# Altium integrated library Microchip PIC24F.IntLib: 529 symbols (part 16 of 32)
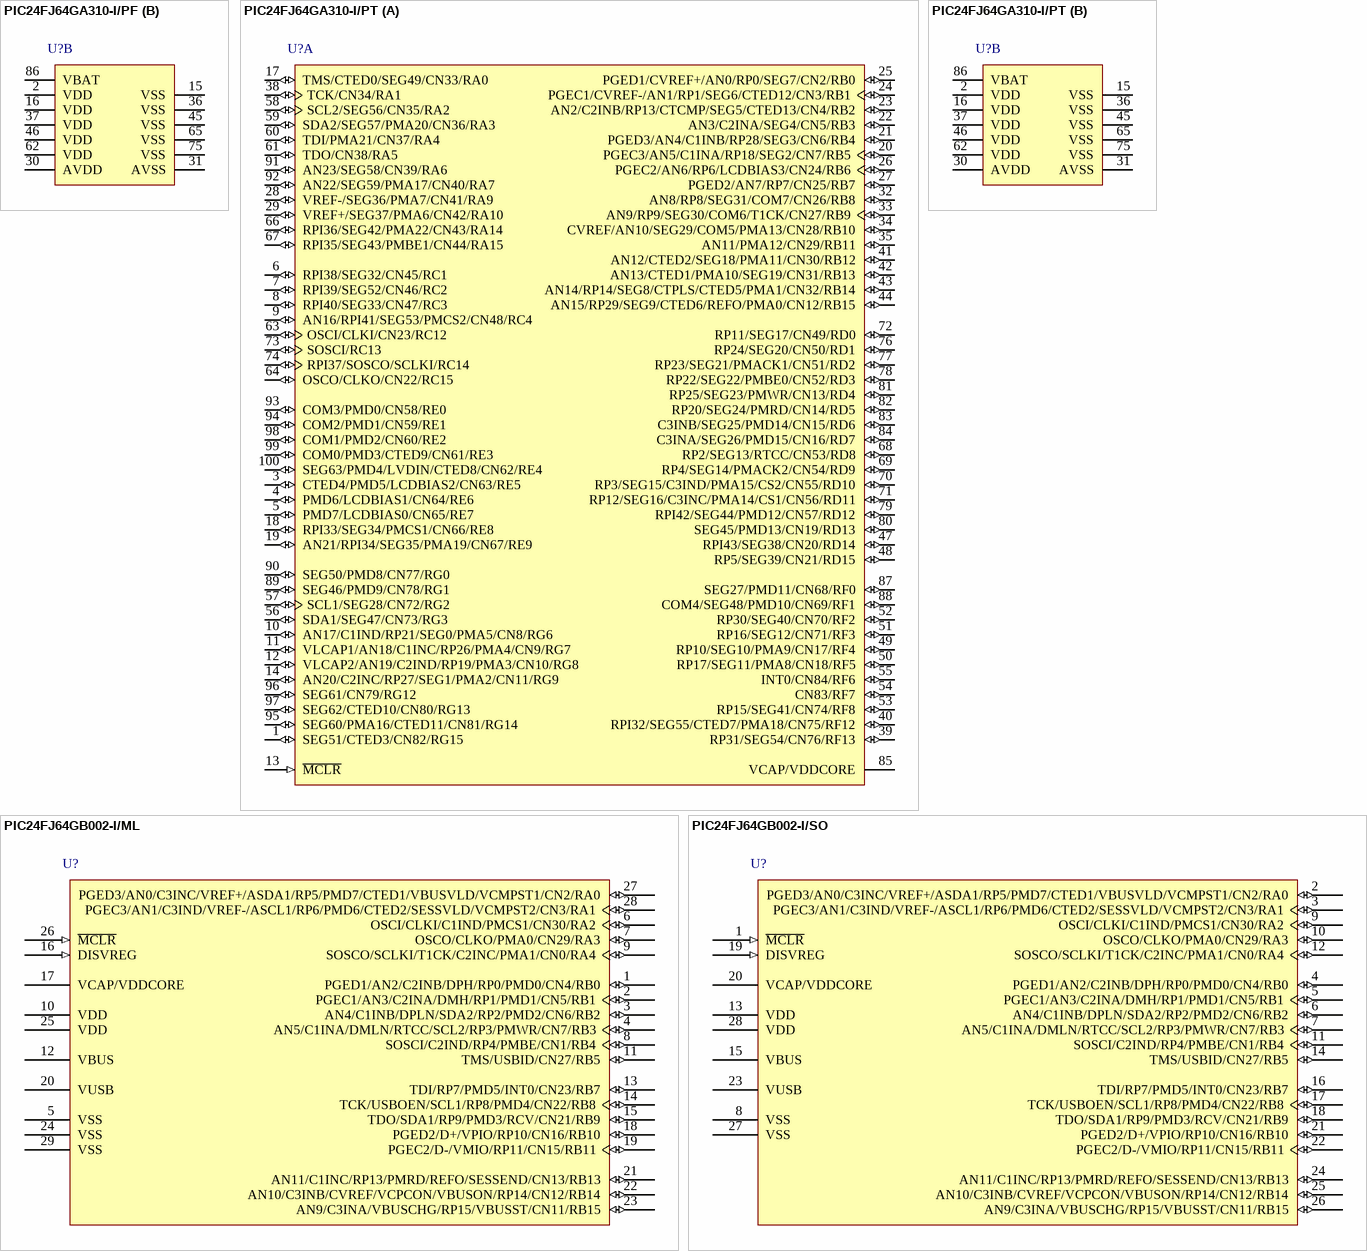
[diagram p137: symbols PIC24FJ64GA310-I/PF to PIC24FJ64GB002-I/SO]

## PIC24FJ64GA310-I/PF
designator U?
General Purpose, 16-Bit Flash Microcontroller with LCD Controller and nanoWatt XLP Technology, 16 MIPS, 85 I/O, EPMP, -40 to 85 degC, 100-pin TQFP (PF100), Tray; Manufacturer: Microchip; PartNumber: PIC24FJ64GA310-I/PF; DatasheetVersion: Rev. F; PackageVersion: C04-110B; PackageReference: TQFP-PF100; PackageDescription: 100-Lead Thin Plastic Quad Flat Pack, 14 x 14 mm Body, 0.5 mm Pitch; Supplier 1: Digi-Key; Supplier Part Number 1: PIC24FJ64GA310-I/PF-ND; Supplier 2: Mouser; Supplier Part Number 2: 579-24FJ64GA310-I/PF; Mounting Technology: Surface Mount; ComponentLink1Description: Manufacturer URL; ComponentLink1URL: http://www.microchip.com; ComponentLink2Description: Datasheet; ComponentLink2URL: http://ww1.microchip.com/downloads/en/DeviceDoc/39996f.pdf; ComponentLink3Description: Package Specification; ComponentLink3URL: http://www.microchip.com/stellent/groups/techpub_sg/documents/packagingspec/en012702.pdf; ComponentLink4Description: Product URL; ComponentLink4URL: http://www.microchip.com/PIC24FJ64GA310
footprint MCHP-TQFP-PF100_N (QFP, 100-Leads, Body 14x14mm, Pitch 0.5mm, IPC Medium Density)
footprint MCHP-TQFP-PF100_L (QFP, 100-Leads, Body 14x14mm, Pitch 0.5mm, IPC High Density)
footprint MCHP-TQFP-PF100_M (QFP, 100-Leads, Body 14x14mm, Pitch 0.5mm, IPC Low Density)
part A pins: 1 SEG51/CTED3/CN82/RG15 (io), 3 CTED4/PMD5/LCDBIAS2/CN63/RE5 (io), 4 PMD6/LCDBIAS1/CN64/RE6 (io), 5 PMD7/LCDBIAS0/CN65/RE7 (io), 6 RPI38/SEG32/CN45/RC1 (io), 7 RPI39/SEG52/CN46/RC2 (io), 8 RPI40/SEG33/CN47/RC3 (io), 9 AN16/RPI41/SEG53/PMCS2/CN48/RC4 (io), 10 AN17/C1IND/RP21/SEG0/PMA5/CN8/RG6 (io), 11 VLCAP1/AN18/C1INC/RP26/PMA4/CN9/RG7 (io), 12 VLCAP2/AN19/C2IND/RP19/PMA3/CN10/RG8 (io), 13 ~{MCLR} (in) "Master Clear (device Reset) Input. This line is brought low to cause a Reset.", 14 AN20/C2INC/RP27/SEG1/PMA2/CN11/RG9 (io), 17 TMS/CTED0/SEG49/CN33/RA0 (io), 18 RPI33/SEG34/PMCS1/CN66/RE8 (io), 19 AN21/RPI34/SEG35/PMA19/CN67/RE9 (io), 20 PGEC3/AN5/C1INA/RP18/SEG2/CN7/RB5 (io), 21 PGED3/AN4/C1INB/RP28/SEG3/CN6/RB4 (io), 22 AN3/C2INA/SEG4/CN5/RB3 (io), 23 AN2/C2INB/RP13/CTCMP/SEG5/CTED13/CN4/RB2 (io), 24 PGEC1/CVREF-/AN1/RP1/SEG6/CTED12/CN3/RB1 (io), 25 PGED1/CVREF+/AN0/RP0/SEG7/CN2/RB0 (io), 26 PGEC2/AN6/RP6/LCDBIAS3/CN24/RB6 (io), 27 PGED2/AN7/RP7/CN25/RB7 (io), 28 VREF-/SEG36/PMA7/CN41/RA9 (io), 29 VREF+/SEG37/PMA6/CN42/RA10 (io), 32 AN8/RP8/SEG31/COM7/CN26/RB8 (io), 33 AN9/RP9/SEG30/COM6/T1CK/CN27/RB9 (io), 34 CVREF/AN10/SEG29/COM5/PMA13/CN28/RB10 (io), 35 AN11/PMA12/CN29/RB11 (io), 38 TCK/CN34/RA1 (io), 39 RP31/SEG54/CN76/RF13 (io), 40 RPI32/SEG55/CTED7/PMA18/CN75/RF12 (io), 41 AN12/CTED2/SEG18/PMA11/CN30/RB12 (io), 42 AN13/CTED1/PMA10/SEG19/CN31/RB13 (io), 43 AN14/RP14/SEG8/CTPLS/CTED5/PMA1/CN32/RB14 (io), 44 AN15/RP29/SEG9/CTED6/REFO/PMA0/CN12/RB15 (io), 47 RPI43/SEG38/CN20/RD14 (io), 48 RP5/SEG39/CN21/RD15 (io), 49 RP10/SEG10/PMA9/CN17/RF4 (io), 50 RP17/SEG11/PMA8/CN18/RF5 (io), 51 RP16/SEG12/CN71/RF3 (io), 52 RP30/SEG40/CN70/RF2 (io), 53 RP15/SEG41/CN74/RF8 (io), 54 CN83/RF7 (io), 55 INT0/CN84/RF6 (io), 56 SDA1/SEG47/CN73/RG3 (io), 57 SCL1/SEG28/CN72/RG2 (io), 58 SCL2/SEG56/CN35/RA2 (io), 59 SDA2/SEG57/PMA20/CN36/RA3 (io), 60 TDI/PMA21/CN37/RA4 (io), 61 TDO/CN38/RA5 (io), 63 OSCI/CLKI/CN23/RC12 (io), 64 OSCO/CLKO/CN22/RC15 (io), 66 RPI36/SEG42/PMA22/CN43/RA14 (io), 67 RPI35/SEG43/PMBE1/CN44/RA15 (io), 68 RP2/SEG13/RTCC/CN53/RD8 (io), 69 RP4/SEG14/PMACK2/CN54/RD9 (io), 70 RP3/SEG15/C3IND/PMA15/CS2/CN55/RD10 (io), 71 RP12/SEG16/C3INC/PMA14/CS1/CN56/RD11 (io), 72 RP11/SEG17/CN49/RD0 (io), 73 SOSCI/RC13 (io), 74 RPI37/SOSCO/SCLKI/RC14 (io), 76 RP24/SEG20/CN50/RD1 (io), 77 RP23/SEG21/PMACK1/CN51/RD2 (io), 78 RP22/SEG22/PMBE0/CN52/RD3 (io), 79 RPI42/SEG44/PMD12/CN57/RD12 (io), 80 SEG45/PMD13/CN19/RD13 (io), 81 RP25/SEG23/PMWR/CN13/RD4 (io), 82 RP20/SEG24/PMRD/CN14/RD5 (io), 83 C3INB/SEG25/PMD14/CN15/RD6 (io), 84 C3INA/SEG26/PMD15/CN16/RD7 (io), 85 VCAP/VDDCORE, 87 SEG27/PMD11/CN68/RF0 (io), 88 COM4/SEG48/PMD10/CN69/RF1 (io), 89 SEG46/PMD9/CN78/RG1 (io), 90 SEG50/PMD8/CN77/RG0 (io), 91 AN23/SEG58/CN39/RA6 (io), 92 AN22/SEG59/PMA17/CN40/RA7 (io), 93 COM3/PMD0/CN58/RE0 (io), 94 COM2/PMD1/CN59/RE1 (io), 95 SEG60/PMA16/CTED11/CN81/RG14 (io), 96 SEG61/CN79/RG12 (io), 97 SEG62/CTED10/CN80/RG13 (io), 98 COM1/PMD2/CN60/RE2 (io), 99 COM0/PMD3/CTED9/CN61/RE3 (io), 100 SEG63/PMD4/LVDIN/CTED8/CN62/RE4 (io)
part B pins: 2 VDD (power) "Positive Supply for Peripheral Digital Logic and I/O Pins.", 15 VSS (power) "Ground Reference for Logic and I/O Pins.", 16 VDD (power) "Positive Supply for Peripheral Digital Logic and I/O Pins.", 30 AVDD (power) "Positive Supply for Analog modules.", 31 AVSS (power) "Ground Reference for Analog modules.", 36 VSS (power) "Ground Reference for Logic and I/O Pins.", 37 VDD (power) "Positive Supply for Peripheral Digital Logic and I/O Pins.", 45 VSS (power) "Ground Reference for Logic and I/O Pins.", 46 VDD (power) "Positive Supply for Peripheral Digital Logic and I/O Pins.", 62 VDD (power) "Positive Supply for Peripheral Digital Logic and I/O Pins.", 65 VSS (power) "Ground Reference for Logic and I/O Pins.", 75 VSS (power) "Ground Reference for Logic and I/O Pins.", 86 VBAT (power) "Back-up Battery."

## PIC24FJ64GA310-I/PT
designator U?
General Purpose, 16-Bit Flash Microcontroller with LCD Controller and nanoWatt XLP Technology, 16 MIPS, 85 I/O, EPMP, -40 to 85 degC, 100-pin TQFP (PT100), Tray; Manufacturer: Microchip; PartNumber: PIC24FJ64GA310-I/PT; DatasheetVersion: Rev. F; PackageVersion: C04-100B; PackageReference: TQFP-PT100; PackageDescription: 100-Lead Plastic Thin Quad Flatpack, 12 x 12 mm Body, 0.4 mm Pitch; Supplier 1: Digi-Key; Supplier Part Number 1: PIC24FJ64GA310-I/PT-ND; Supplier 2: Farnell; Supplier Part Number 2: 2076551; Supplier 3: Newark; Supplier Part Number 3: 39T6771; Supplier 4: Mouser; Supplier Part Number 4: 579-24FJ64GA310-I/PT; Mounting Technology: Surface Mount; ComponentLink1Description: Manufacturer URL; ComponentLink1URL: http://www.microchip.com; ComponentLink2Description: Datasheet; ComponentLink2URL: http://ww1.microchip.com/downloads/en/DeviceDoc/39996f.pdf; ComponentLink3Description: Package Specification; ComponentLink3URL: http://www.microchip.com/stellent/groups/techpub_sg/documents/packagingspec/en012702.pdf; ComponentLink4Description: Product URL; ComponentLink4URL: http://www.microchip.com/PIC24FJ64GA310
footprint MCHP-TQFP-PT100_N (QFP, 100-Leads, Body 12x12mm, Pitch 0.4mm, IPC Medium Density)
footprint MCHP-TQFP-PT100_L (QFP, 100-Leads, Body 12x12mm, Pitch 0.4mm, IPC High Density)
footprint MCHP-TQFP-PT100_M (TQFP, 100-Leads, Body 12x12mm, Pitch 0.4mm, IPC Low Density)
part A pins: 1 SEG51/CTED3/CN82/RG15 (io), 3 CTED4/PMD5/LCDBIAS2/CN63/RE5 (io), 4 PMD6/LCDBIAS1/CN64/RE6 (io), 5 PMD7/LCDBIAS0/CN65/RE7 (io), 6 RPI38/SEG32/CN45/RC1 (io), 7 RPI39/SEG52/CN46/RC2 (io), 8 RPI40/SEG33/CN47/RC3 (io), 9 AN16/RPI41/SEG53/PMCS2/CN48/RC4 (io), 10 AN17/C1IND/RP21/SEG0/PMA5/CN8/RG6 (io), 11 VLCAP1/AN18/C1INC/RP26/PMA4/CN9/RG7 (io), 12 VLCAP2/AN19/C2IND/RP19/PMA3/CN10/RG8 (io), 13 ~{MCLR} (in) "Master Clear (device Reset) Input. This line is brought low to cause a Reset.", 14 AN20/C2INC/RP27/SEG1/PMA2/CN11/RG9 (io), 17 TMS/CTED0/SEG49/CN33/RA0 (io), 18 RPI33/SEG34/PMCS1/CN66/RE8 (io), 19 AN21/RPI34/SEG35/PMA19/CN67/RE9 (io), 20 PGEC3/AN5/C1INA/RP18/SEG2/CN7/RB5 (io), 21 PGED3/AN4/C1INB/RP28/SEG3/CN6/RB4 (io), 22 AN3/C2INA/SEG4/CN5/RB3 (io), 23 AN2/C2INB/RP13/CTCMP/SEG5/CTED13/CN4/RB2 (io), 24 PGEC1/CVREF-/AN1/RP1/SEG6/CTED12/CN3/RB1 (io), 25 PGED1/CVREF+/AN0/RP0/SEG7/CN2/RB0 (io), 26 PGEC2/AN6/RP6/LCDBIAS3/CN24/RB6 (io), 27 PGED2/AN7/RP7/CN25/RB7 (io), 28 VREF-/SEG36/PMA7/CN41/RA9 (io), 29 VREF+/SEG37/PMA6/CN42/RA10 (io), 32 AN8/RP8/SEG31/COM7/CN26/RB8 (io), 33 AN9/RP9/SEG30/COM6/T1CK/CN27/RB9 (io), 34 CVREF/AN10/SEG29/COM5/PMA13/CN28/RB10 (io), 35 AN11/PMA12/CN29/RB11 (io), 38 TCK/CN34/RA1 (io), 39 RP31/SEG54/CN76/RF13 (io), 40 RPI32/SEG55/CTED7/PMA18/CN75/RF12 (io), 41 AN12/CTED2/SEG18/PMA11/CN30/RB12 (io), 42 AN13/CTED1/PMA10/SEG19/CN31/RB13 (io), 43 AN14/RP14/SEG8/CTPLS/CTED5/PMA1/CN32/RB14 (io), 44 AN15/RP29/SEG9/CTED6/REFO/PMA0/CN12/RB15 (io), 47 RPI43/SEG38/CN20/RD14 (io), 48 RP5/SEG39/CN21/RD15 (io), 49 RP10/SEG10/PMA9/CN17/RF4 (io), 50 RP17/SEG11/PMA8/CN18/RF5 (io), 51 RP16/SEG12/CN71/RF3 (io), 52 RP30/SEG40/CN70/RF2 (io), 53 RP15/SEG41/CN74/RF8 (io), 54 CN83/RF7 (io), 55 INT0/CN84/RF6 (io), 56 SDA1/SEG47/CN73/RG3 (io), 57 SCL1/SEG28/CN72/RG2 (io), 58 SCL2/SEG56/CN35/RA2 (io), 59 SDA2/SEG57/PMA20/CN36/RA3 (io), 60 TDI/PMA21/CN37/RA4 (io), 61 TDO/CN38/RA5 (io), 63 OSCI/CLKI/CN23/RC12 (io), 64 OSCO/CLKO/CN22/RC15 (io), 66 RPI36/SEG42/PMA22/CN43/RA14 (io), 67 RPI35/SEG43/PMBE1/CN44/RA15 (io), 68 RP2/SEG13/RTCC/CN53/RD8 (io), 69 RP4/SEG14/PMACK2/CN54/RD9 (io), 70 RP3/SEG15/C3IND/PMA15/CS2/CN55/RD10 (io), 71 RP12/SEG16/C3INC/PMA14/CS1/CN56/RD11 (io), 72 RP11/SEG17/CN49/RD0 (io), 73 SOSCI/RC13 (io), 74 RPI37/SOSCO/SCLKI/RC14 (io), 76 RP24/SEG20/CN50/RD1 (io), 77 RP23/SEG21/PMACK1/CN51/RD2 (io), 78 RP22/SEG22/PMBE0/CN52/RD3 (io), 79 RPI42/SEG44/PMD12/CN57/RD12 (io), 80 SEG45/PMD13/CN19/RD13 (io), 81 RP25/SEG23/PMWR/CN13/RD4 (io), 82 RP20/SEG24/PMRD/CN14/RD5 (io), 83 C3INB/SEG25/PMD14/CN15/RD6 (io), 84 C3INA/SEG26/PMD15/CN16/RD7 (io), 85 VCAP/VDDCORE, 87 SEG27/PMD11/CN68/RF0 (io), 88 COM4/SEG48/PMD10/CN69/RF1 (io), 89 SEG46/PMD9/CN78/RG1 (io), 90 SEG50/PMD8/CN77/RG0 (io), 91 AN23/SEG58/CN39/RA6 (io), 92 AN22/SEG59/PMA17/CN40/RA7 (io), 93 COM3/PMD0/CN58/RE0 (io), 94 COM2/PMD1/CN59/RE1 (io), 95 SEG60/PMA16/CTED11/CN81/RG14 (io), 96 SEG61/CN79/RG12 (io), 97 SEG62/CTED10/CN80/RG13 (io), 98 COM1/PMD2/CN60/RE2 (io), 99 COM0/PMD3/CTED9/CN61/RE3 (io), 100 SEG63/PMD4/LVDIN/CTED8/CN62/RE4 (io)
part B pins: 2 VDD (power) "Positive Supply for Peripheral Digital Logic and I/O Pins.", 15 VSS (power) "Ground Reference for Logic and I/O Pins.", 16 VDD (power) "Positive Supply for Peripheral Digital Logic and I/O Pins.", 30 AVDD (power) "Positive Supply for Analog modules.", 31 AVSS (power) "Ground Reference for Analog modules.", 36 VSS (power) "Ground Reference for Logic and I/O Pins.", 37 VDD (power) "Positive Supply for Peripheral Digital Logic and I/O Pins.", 45 VSS (power) "Ground Reference for Logic and I/O Pins.", 46 VDD (power) "Positive Supply for Peripheral Digital Logic and I/O Pins.", 62 VDD (power) "Positive Supply for Peripheral Digital Logic and I/O Pins.", 65 VSS (power) "Ground Reference for Logic and I/O Pins.", 75 VSS (power) "Ground Reference for Logic and I/O Pins.", 86 VBAT (power) "Back-up Battery."

## PIC24FJ64GB002-I/ML
designator U?
16-Bit Flash Microcontroller with USB On-The-Go and nanoWatt XLP, 64KB Flash, 8KB SRAM, 28-Pin QFN, Industrial Temperature; Manufacturer: Microchip; PartNumber: PIC24FJ64GB002-I/ML; DatasheetVersion: revD, Aug-2010; PackageVersion: revBB, Aug-2009; PackageReference: QFN-ML28; PackageDescription: 28-Lead Plastic Quad Flat, No Lead Package (ML) - 6x6 mm Body [QFN] with 0.55 mm Contact Length; Supplier 1: Digi-Key; Supplier Part Number 1: PIC24FJ64GB002-I/ML-ND; Supplier 2: Farnell; Supplier Part Number 2: 1778483; Supplier 3: Newark; Supplier Part Number 3: 07P9737; Supplier 4: Mouser; Supplier Part Number 4: 579-P24FJ64GB002IML; Mounting Technology: Surface Mount; Code_JEDEC: MO-220; ComponentLink1Description: Manufacturer URL; ComponentLink1URL: http://www.microchip.com/; ComponentLink2Description: Datasheet; ComponentLink2URL: http://ww1.microchip.com/downloads/en/DeviceDoc/39940d.pdf; ComponentLink3Description: Package Specification; ComponentLink3URL: http://www.microchip.com/stellent/groups/techpub_sg/documents/packagingspec/en012702.pdf
footprint QFN-ML28_N (QFN, 28-Leads, Body 6x6mm, Pitch 0.65mm, Thermal Pad 4.2x4.2mm, IPC Medium Density)
footprint QFN-ML28_L (QFN, 28-Leads, Body 6x6mm, Pitch 0.65mm, Thermal Pad 4.2x4.2mm, IPC High Density)
footprint QFN-ML28_M (QFN, 28-Leads, Body 6x6mm, Pitch 0.65mm, Thermal Pad 4.2x4.2mm, IPC Low Density)
pins: 1 PGED1/AN2/C2INB/DPH/RP0/PMD0/CN4/RB0 (io), 2 PGEC1/AN3/C2INA/DMH/RP1/PMD1/CN5/RB1 (io), 3 AN4/C1INB/DPLN/SDA2/RP2/PMD2/CN6/RB2 (io), 4 AN5/C1INA/DMLN/RTCC/SCL2/RP3/PMWR/CN7/RB3 (io), 5 VSS (power), 6 OSCI/CLKI/C1IND/PMCS1/CN30/RA2 (io), 7 OSCO/CLKO/PMA0/CN29/RA3 (io), 8 SOSCI/C2IND/RP4/PMBE/CN1/RB4 (io), 9 SOSCO/SCLKI/T1CK/C2INC/PMA1/CN0/RA4 (io), 10 VDD (power), 11 TMS/USBID/CN27/RB5 (io), 12 VBUS (power), 13 TDI/RP7/PMD5/INT0/CN23/RB7 (io), 14 TCK/USBOEN/SCL1/RP8/PMD4/CN22/RB8 (io), 15 TDO/SDA1/RP9/PMD3/RCV/CN21/RB9 (io), 16 DISVREG (in), 17 VCAP/VDDCORE (power), 18 PGED2/D+/VPIO/RP10/CN16/RB10 (io), 19 PGEC2/D-/VMIO/RP11/CN15/RB11 (io), 20 VUSB (power), 21 AN11/C1INC/RP13/PMRD/REFO/SESSEND/CN13/RB13 (io), 22 AN10/C3INB/CVREF/VCPCON/VBUSON/RP14/CN12/RB14 (io), 23 AN9/C3INA/VBUSCHG/RP15/VBUSST/CN11/RB15 (io), 24 VSS (power), 25 VDD (power), 26 ~{MCLR} (in), 27 PGED3/AN0/C3INC/VREF+/ASDA1/RP5/PMD7/CTED1/VBUSVLD/VCMPST1/CN2/RA0 (io), 28 PGEC3/AN1/C3IND/VREF-/ASCL1/RP6/PMD6/CTED2/SESSVLD/VCMPST2/CN3/RA1 (io), 29 VSS (power)

## PIC24FJ64GB002-I/SO
designator U?
16-Bit Flash Microcontroller with USB On-The-Go and nanoWatt XLP, 64KB Flash, 8KB SRAM, 28-Pin SOIC, Industrial Temperature; Manufacturer: Microchip; PartNumber: PIC24FJ64GB002-I/SO; DatasheetVersion: revD, Aug-2010; PackageVersion: revBB, Aug-2009; PackageReference: SOIC-SO28; PackageDescription: 28-Lead Plastic Small Outline (SO) - Wide 7.50mm Body [SOIC]; Supplier 1: Digi-Key; Supplier Part Number 1: PIC24FJ64GB002-I/SO-ND; Supplier 2: Farnell; Supplier Part Number 2: 1778484; Supplier 3: Newark; Supplier Part Number 3: 07P9738; Supplier 4: Mouser; Supplier Part Number 4: 579-P24FJ64GB002ISO; Mounting Technology: Surface Mount; Code_JEDEC: MS-013; ComponentLink1Description: Manufacturer URL; ComponentLink1URL: http://www.microchip.com/; ComponentLink2Description: Datasheet; ComponentLink2URL: http://ww1.microchip.com/downloads/en/DeviceDoc/39940d.pdf; ComponentLink3Description: Package Specification; ComponentLink3URL: http://www.microchip.com/stellent/groups/techpub_sg/documents/packagingspec/en012702.pdf
footprint SOIC-SO28_N (SOIC, 28-Leads, Body 17.9x7.5mm, Pitch 1.27mm, IPC Medium Density)
footprint SOIC-SO28_L (SOIC, 28-Leads, Body 17.9x7.5mm, Pitch 1.27mm, IPC High Density)
footprint SOIC-SO28_M (SOIC, 28-Leads, Body 17.9x7.5mm, Pitch 1.27mm, IPC Low Density)
pins: 1 ~{MCLR} (in), 2 PGED3/AN0/C3INC/VREF+/ASDA1/RP5/PMD7/CTED1/VBUSVLD/VCMPST1/CN2/RA0 (io), 3 PGEC3/AN1/C3IND/VREF-/ASCL1/RP6/PMD6/CTED2/SESSVLD/VCMPST2/CN3/RA1 (io), 4 PGED1/AN2/C2INB/DPH/RP0/PMD0/CN4/RB0 (io), 5 PGEC1/AN3/C2INA/DMH/RP1/PMD1/CN5/RB1 (io), 6 AN4/C1INB/DPLN/SDA2/RP2/PMD2/CN6/RB2 (io), 7 AN5/C1INA/DMLN/RTCC/SCL2/RP3/PMWR/CN7/RB3 (io), 8 VSS (power), 9 OSCI/CLKI/C1IND/PMCS1/CN30/RA2 (io), 10 OSCO/CLKO/PMA0/CN29/RA3 (io), 11 SOSCI/C2IND/RP4/PMBE/CN1/RB4 (io), 12 SOSCO/SCLKI/T1CK/C2INC/PMA1/CN0/RA4 (io), 13 VDD (power), 14 TMS/USBID/CN27/RB5 (io), 15 VBUS (power), 16 TDI/RP7/PMD5/INT0/CN23/RB7 (io), 17 TCK/USBOEN/SCL1/RP8/PMD4/CN22/RB8 (io), 18 TDO/SDA1/RP9/PMD3/RCV/CN21/RB9 (io), 19 DISVREG (in), 20 VCAP/VDDCORE (power), 21 PGED2/D+/VPIO/RP10/CN16/RB10 (io), 22 PGEC2/D-/VMIO/RP11/CN15/RB11 (io), 23 VUSB (power), 24 AN11/C1INC/RP13/PMRD/REFO/SESSEND/CN13/RB13 (io), 25 AN10/C3INB/CVREF/VCPCON/VBUSON/RP14/CN12/RB14 (io), 26 AN9/C3INA/VBUSCHG/RP15/VBUSST/CN11/RB15 (io), 27 VSS (power), 28 VDD (power)

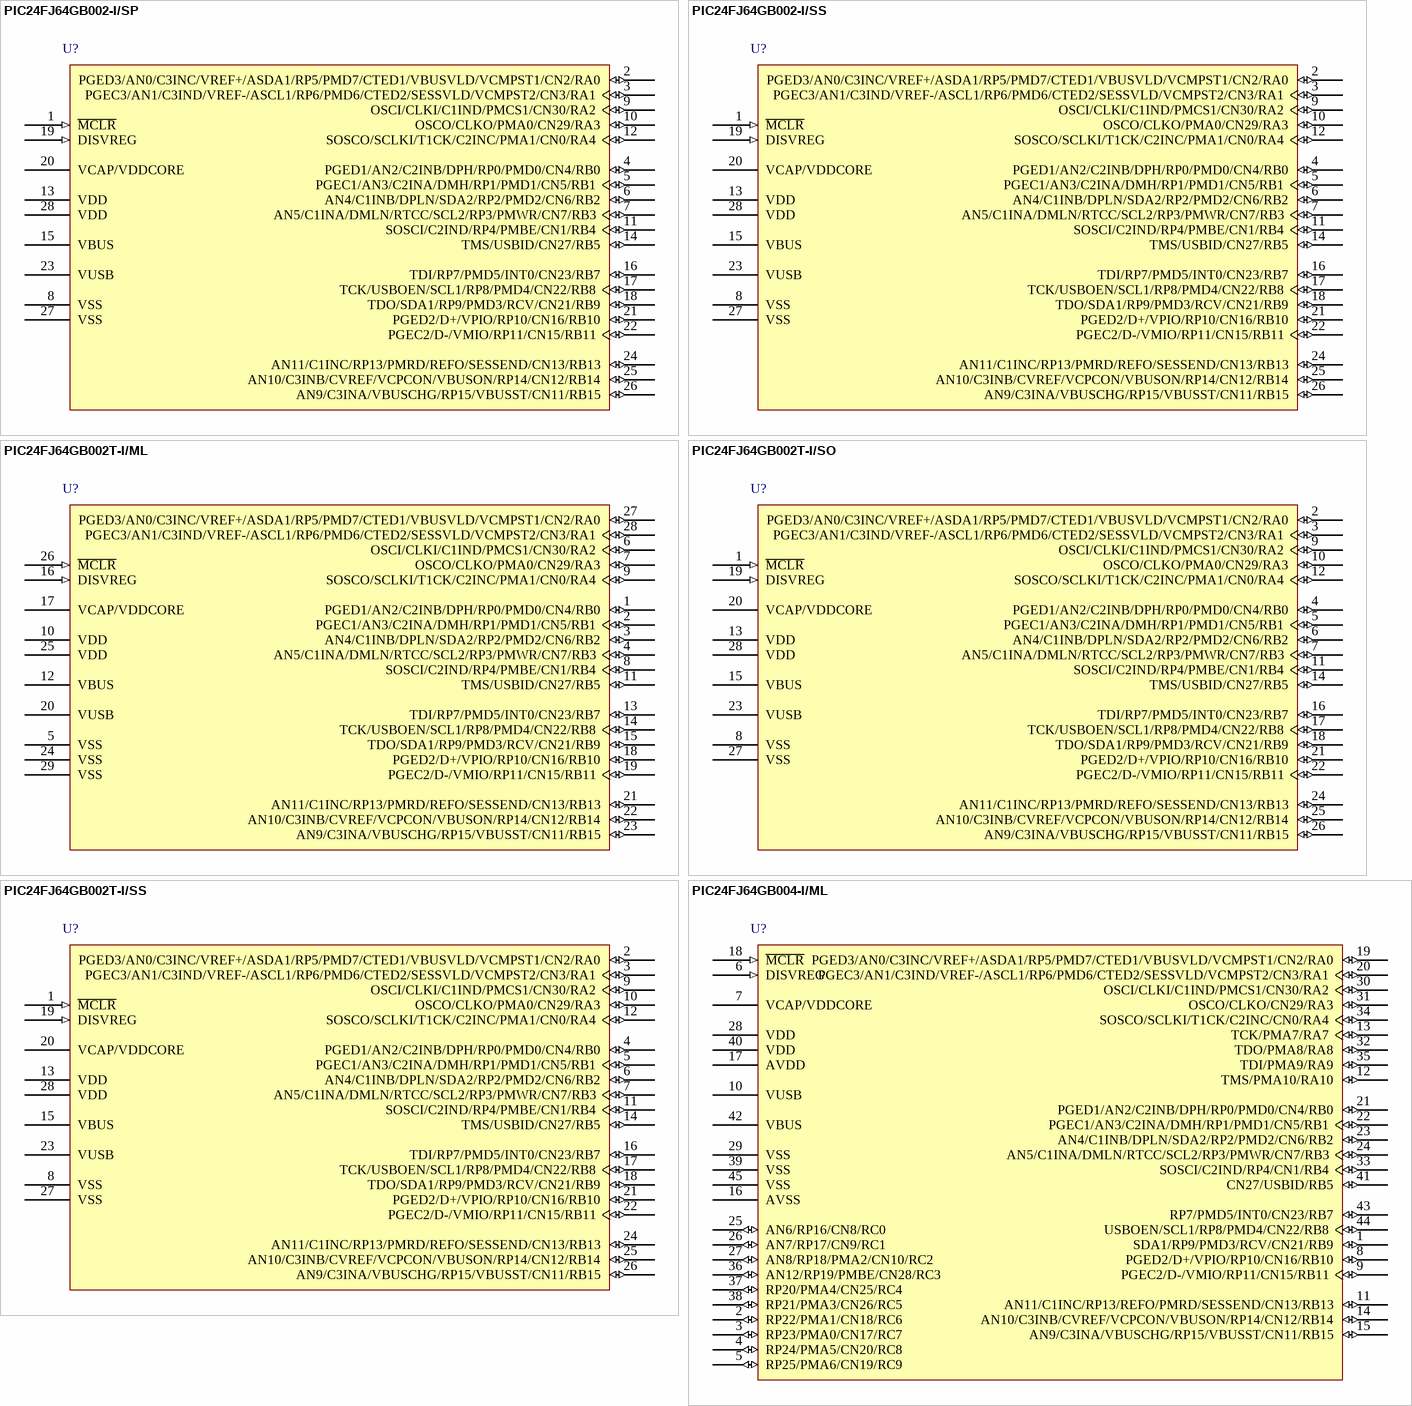
[diagram p50: symbols PIC24FJ64GB002-I/SP to PIC24FJ64GB004-I/ML]

## PIC24FJ64GB002-I/SP
designator U?
16-Bit Flash Microcontroller with USB On-The-Go and nanoWatt XLP, 64KB Flash, 8KB SRAM, 28-Pin SPDIP, Industrial Temperature; Manufacturer: Microchip; PartNumber: PIC24FJ64GB002-I/SP; DatasheetVersion: revD, Aug-2010; PackageVersion: revBB, Aug-2009; PackageReference: SPDIP300-SP28; PackageDescription: 28-Lead Skinny Plastic Dual In-Line (SP) - 300 mil Body [SPDIP]; Supplier 1: Digi-Key; Supplier Part Number 1: PIC24FJ64GB002-I/SP-ND; Supplier 2: Farnell; Supplier Part Number 2: 1778485; Supplier 3: Newark; Supplier Part Number 3: 07P9739; Supplier 4: Mouser; Supplier Part Number 4: 579-P24FJ64GB002ISP; Mounting Technology: Through Hole; ComponentLink1Description: Manufacturer URL; ComponentLink1URL: http://www.microchip.com/; ComponentLink2Description: Datasheet; ComponentLink2URL: http://ww1.microchip.com/downloads/en/DeviceDoc/39940d.pdf; ComponentLink3Description: Package Specification; ComponentLink3URL: http://www.microchip.com/stellent/groups/techpub_sg/documents/packagingspec/en012702.pdf
footprint SPDIP300-SP28 (DIP, 28-Leads, Row Spacing 7.62mm, Pitch 2.54mm, Body 34.9x6.8mm)
pins: 1 ~{MCLR} (in), 2 PGED3/AN0/C3INC/VREF+/ASDA1/RP5/PMD7/CTED1/VBUSVLD/VCMPST1/CN2/RA0 (io), 3 PGEC3/AN1/C3IND/VREF-/ASCL1/RP6/PMD6/CTED2/SESSVLD/VCMPST2/CN3/RA1 (io), 4 PGED1/AN2/C2INB/DPH/RP0/PMD0/CN4/RB0 (io), 5 PGEC1/AN3/C2INA/DMH/RP1/PMD1/CN5/RB1 (io), 6 AN4/C1INB/DPLN/SDA2/RP2/PMD2/CN6/RB2 (io), 7 AN5/C1INA/DMLN/RTCC/SCL2/RP3/PMWR/CN7/RB3 (io), 8 VSS (power), 9 OSCI/CLKI/C1IND/PMCS1/CN30/RA2 (io), 10 OSCO/CLKO/PMA0/CN29/RA3 (io), 11 SOSCI/C2IND/RP4/PMBE/CN1/RB4 (io), 12 SOSCO/SCLKI/T1CK/C2INC/PMA1/CN0/RA4 (io), 13 VDD (power), 14 TMS/USBID/CN27/RB5 (io), 15 VBUS (power), 16 TDI/RP7/PMD5/INT0/CN23/RB7 (io), 17 TCK/USBOEN/SCL1/RP8/PMD4/CN22/RB8 (io), 18 TDO/SDA1/RP9/PMD3/RCV/CN21/RB9 (io), 19 DISVREG (in), 20 VCAP/VDDCORE (power), 21 PGED2/D+/VPIO/RP10/CN16/RB10 (io), 22 PGEC2/D-/VMIO/RP11/CN15/RB11 (io), 23 VUSB (power), 24 AN11/C1INC/RP13/PMRD/REFO/SESSEND/CN13/RB13 (io), 25 AN10/C3INB/CVREF/VCPCON/VBUSON/RP14/CN12/RB14 (io), 26 AN9/C3INA/VBUSCHG/RP15/VBUSST/CN11/RB15 (io), 27 VSS (power), 28 VDD (power)

## PIC24FJ64GB002-I/SS
designator U?
16-Bit Flash Microcontroller with USB On-The-Go and nanoWatt XLP, 64KB Flash, 8KB SRAM, 28-Pin SSOP, Industrial Temperature; Manufacturer: Microchip; PartNumber: PIC24FJ64GB002-I/SS; DatasheetVersion: revD, Aug-2010; PackageVersion: revBB, Aug-2009; PackageReference: SSOP-SS28; PackageDescription: 28-Lead Plastic Shrink Small Outline (SS) - 5.3mm Body [SSOP]; Supplier 1: Digi-Key; Supplier Part Number 1: PIC24FJ64GB002-I/SS-ND; Supplier 2: Newark; Supplier Part Number 2: 39T6772; Supplier 3: Mouser; Supplier Part Number 3: 579-24FJ64GB002-I/SS; Mounting Technology: Surface Mount; Code_JEDEC: MS-150; ComponentLink1Description: Manufacturer URL; ComponentLink1URL: http://www.microchip.com/; ComponentLink2Description: Datasheet; ComponentLink2URL: http://ww1.microchip.com/downloads/en/DeviceDoc/39940d.pdf; ComponentLink3Description: Package Specification; ComponentLink3URL: http://www.microchip.com/stellent/groups/techpub_sg/documents/packagingspec/en012702.pdf
footprint SSOP-SS28_N (SOP, 28-Leads, Body 10.2x5.2mm, Pitch 0.65mm, IPC Medium Density)
footprint SSOP-SS28_L (SOP, 28-Leads, Body 10.2x5.2mm, Pitch 0.65mm, IPC High Density)
footprint SSOP-SS28_M (SOP, 28-Leads, Body 10.2x5.2mm, Pitch 0.65mm, IPC Low Density)
pins: 1 ~{MCLR} (in), 2 PGED3/AN0/C3INC/VREF+/ASDA1/RP5/PMD7/CTED1/VBUSVLD/VCMPST1/CN2/RA0 (io), 3 PGEC3/AN1/C3IND/VREF-/ASCL1/RP6/PMD6/CTED2/SESSVLD/VCMPST2/CN3/RA1 (io), 4 PGED1/AN2/C2INB/DPH/RP0/PMD0/CN4/RB0 (io), 5 PGEC1/AN3/C2INA/DMH/RP1/PMD1/CN5/RB1 (io), 6 AN4/C1INB/DPLN/SDA2/RP2/PMD2/CN6/RB2 (io), 7 AN5/C1INA/DMLN/RTCC/SCL2/RP3/PMWR/CN7/RB3 (io), 8 VSS (power), 9 OSCI/CLKI/C1IND/PMCS1/CN30/RA2 (io), 10 OSCO/CLKO/PMA0/CN29/RA3 (io), 11 SOSCI/C2IND/RP4/PMBE/CN1/RB4 (io), 12 SOSCO/SCLKI/T1CK/C2INC/PMA1/CN0/RA4 (io), 13 VDD (power), 14 TMS/USBID/CN27/RB5 (io), 15 VBUS (power), 16 TDI/RP7/PMD5/INT0/CN23/RB7 (io), 17 TCK/USBOEN/SCL1/RP8/PMD4/CN22/RB8 (io), 18 TDO/SDA1/RP9/PMD3/RCV/CN21/RB9 (io), 19 DISVREG (in), 20 VCAP/VDDCORE (power), 21 PGED2/D+/VPIO/RP10/CN16/RB10 (io), 22 PGEC2/D-/VMIO/RP11/CN15/RB11 (io), 23 VUSB (power), 24 AN11/C1INC/RP13/PMRD/REFO/SESSEND/CN13/RB13 (io), 25 AN10/C3INB/CVREF/VCPCON/VBUSON/RP14/CN12/RB14 (io), 26 AN9/C3INA/VBUSCHG/RP15/VBUSST/CN11/RB15 (io), 27 VSS (power), 28 VDD (power)

## PIC24FJ64GB002T-I/ML
designator U?
16-Bit Flash Microcontroller with USB On-The-Go and nanoWatt XLP, 64KB Flash, 8KB SRAM, 28-Pin QFN, Industrial Temperature, Tape and Reel; Manufacturer: Microchip; PartNumber: PIC24FJ64GB002T-I/ML; DatasheetVersion: revD, Aug-2010; PackageVersion: revBB, Aug-2009; PackageReference: QFN-ML28; PackageDescription: 28-Lead Plastic Quad Flat, No Lead Package (ML) - 6x6 mm Body [QFN] with 0.55 mm Contact Length; Supplier 1: Digi-Key; Supplier Part Number 1: PIC24FJ64GB002T-I/ML-ND; Supplier 2: Newark; Supplier Part Number 2: 07P9740; Supplier 3: Mouser; Supplier Part Number 3: 579-P24FJ64GB002TIML; Mounting Technology: Surface Mount; Code_JEDEC: MO-220; ComponentLink1Description: Manufacturer URL; ComponentLink1URL: http://www.microchip.com/; ComponentLink2Description: Datasheet; ComponentLink2URL: http://ww1.microchip.com/downloads/en/DeviceDoc/39940d.pdf; ComponentLink3Description: Package Specification; ComponentLink3URL: http://www.microchip.com/stellent/groups/techpub_sg/documents/packagingspec/en012702.pdf
footprint QFN-ML28_N (QFN, 28-Leads, Body 6x6mm, Pitch 0.65mm, Thermal Pad 4.2x4.2mm, IPC Medium Density)
footprint QFN-ML28_L (QFN, 28-Leads, Body 6x6mm, Pitch 0.65mm, Thermal Pad 4.2x4.2mm, IPC High Density)
footprint QFN-ML28_M (QFN, 28-Leads, Body 6x6mm, Pitch 0.65mm, Thermal Pad 4.2x4.2mm, IPC Low Density)
pins: 1 PGED1/AN2/C2INB/DPH/RP0/PMD0/CN4/RB0 (io), 2 PGEC1/AN3/C2INA/DMH/RP1/PMD1/CN5/RB1 (io), 3 AN4/C1INB/DPLN/SDA2/RP2/PMD2/CN6/RB2 (io), 4 AN5/C1INA/DMLN/RTCC/SCL2/RP3/PMWR/CN7/RB3 (io), 5 VSS (power), 6 OSCI/CLKI/C1IND/PMCS1/CN30/RA2 (io), 7 OSCO/CLKO/PMA0/CN29/RA3 (io), 8 SOSCI/C2IND/RP4/PMBE/CN1/RB4 (io), 9 SOSCO/SCLKI/T1CK/C2INC/PMA1/CN0/RA4 (io), 10 VDD (power), 11 TMS/USBID/CN27/RB5 (io), 12 VBUS (power), 13 TDI/RP7/PMD5/INT0/CN23/RB7 (io), 14 TCK/USBOEN/SCL1/RP8/PMD4/CN22/RB8 (io), 15 TDO/SDA1/RP9/PMD3/RCV/CN21/RB9 (io), 16 DISVREG (in), 17 VCAP/VDDCORE (power), 18 PGED2/D+/VPIO/RP10/CN16/RB10 (io), 19 PGEC2/D-/VMIO/RP11/CN15/RB11 (io), 20 VUSB (power), 21 AN11/C1INC/RP13/PMRD/REFO/SESSEND/CN13/RB13 (io), 22 AN10/C3INB/CVREF/VCPCON/VBUSON/RP14/CN12/RB14 (io), 23 AN9/C3INA/VBUSCHG/RP15/VBUSST/CN11/RB15 (io), 24 VSS (power), 25 VDD (power), 26 ~{MCLR} (in), 27 PGED3/AN0/C3INC/VREF+/ASDA1/RP5/PMD7/CTED1/VBUSVLD/VCMPST1/CN2/RA0 (io), 28 PGEC3/AN1/C3IND/VREF-/ASCL1/RP6/PMD6/CTED2/SESSVLD/VCMPST2/CN3/RA1 (io), 29 VSS (power)

## PIC24FJ64GB002T-I/SO
designator U?
16-Bit Flash Microcontroller with USB On-The-Go and nanoWatt XLP, 64KB Flash, 8KB SRAM, 28-Pin SOIC, Industrial Temperature, Tape and Reel; Manufacturer: Microchip; PartNumber: PIC24FJ64GB002T-I/SO; DatasheetVersion: revD, Aug-2010; PackageVersion: revBB, Aug-2009; PackageReference: SOIC-SO28; PackageDescription: 28-Lead Plastic Small Outline (SO) - Wide 7.50mm Body [SOIC]; Supplier 1: Digi-Key; Supplier Part Number 1: PIC24FJ64GB002T-I/SO-ND; Supplier 2: Mouser; Supplier Part Number 2: 579-P24FJ64GB002TISO; Mounting Technology: Surface Mount; Code_JEDEC: MS-013; ComponentLink1Description: Manufacturer URL; ComponentLink1URL: http://www.microchip.com/; ComponentLink2Description: Datasheet; ComponentLink2URL: http://ww1.microchip.com/downloads/en/DeviceDoc/39940d.pdf; ComponentLink3Description: Package Specification; ComponentLink3URL: http://www.microchip.com/stellent/groups/techpub_sg/documents/packagingspec/en012702.pdf
footprint SOIC-SO28_N (SOIC, 28-Leads, Body 17.9x7.5mm, Pitch 1.27mm, IPC Medium Density)
footprint SOIC-SO28_L (SOIC, 28-Leads, Body 17.9x7.5mm, Pitch 1.27mm, IPC High Density)
footprint SOIC-SO28_M (SOIC, 28-Leads, Body 17.9x7.5mm, Pitch 1.27mm, IPC Low Density)
pins: 1 ~{MCLR} (in), 2 PGED3/AN0/C3INC/VREF+/ASDA1/RP5/PMD7/CTED1/VBUSVLD/VCMPST1/CN2/RA0 (io), 3 PGEC3/AN1/C3IND/VREF-/ASCL1/RP6/PMD6/CTED2/SESSVLD/VCMPST2/CN3/RA1 (io), 4 PGED1/AN2/C2INB/DPH/RP0/PMD0/CN4/RB0 (io), 5 PGEC1/AN3/C2INA/DMH/RP1/PMD1/CN5/RB1 (io), 6 AN4/C1INB/DPLN/SDA2/RP2/PMD2/CN6/RB2 (io), 7 AN5/C1INA/DMLN/RTCC/SCL2/RP3/PMWR/CN7/RB3 (io), 8 VSS (power), 9 OSCI/CLKI/C1IND/PMCS1/CN30/RA2 (io), 10 OSCO/CLKO/PMA0/CN29/RA3 (io), 11 SOSCI/C2IND/RP4/PMBE/CN1/RB4 (io), 12 SOSCO/SCLKI/T1CK/C2INC/PMA1/CN0/RA4 (io), 13 VDD (power), 14 TMS/USBID/CN27/RB5 (io), 15 VBUS (power), 16 TDI/RP7/PMD5/INT0/CN23/RB7 (io), 17 TCK/USBOEN/SCL1/RP8/PMD4/CN22/RB8 (io), 18 TDO/SDA1/RP9/PMD3/RCV/CN21/RB9 (io), 19 DISVREG (in), 20 VCAP/VDDCORE (power), 21 PGED2/D+/VPIO/RP10/CN16/RB10 (io), 22 PGEC2/D-/VMIO/RP11/CN15/RB11 (io), 23 VUSB (power), 24 AN11/C1INC/RP13/PMRD/REFO/SESSEND/CN13/RB13 (io), 25 AN10/C3INB/CVREF/VCPCON/VBUSON/RP14/CN12/RB14 (io), 26 AN9/C3INA/VBUSCHG/RP15/VBUSST/CN11/RB15 (io), 27 VSS (power), 28 VDD (power)

## PIC24FJ64GB002T-I/SS
designator U?
16-Bit Flash Microcontroller with USB On-The-Go and nanoWatt XLP, 64KB Flash, 8KB SRAM, 28-Pin SSOP, Industrial Temperature, Tape and Reel; Manufacturer: Microchip; PartNumber: PIC24FJ64GB002T-I/SS; DatasheetVersion: revD, Aug-2010; PackageVersion: revBB, Aug-2009; PackageReference: SSOP-SS28; PackageDescription: 28-Lead Plastic Shrink Small Outline (SS) - 5.3mm Body [SSOP]; Supplier 1: Digi-Key; Supplier Part Number 1: PIC24FJ64GB002T-I/SS-ND; Supplier 2: Newark; Supplier Part Number 2: 39T6773; Supplier 3: Mouser; Supplier Part Number 3: 579-24FJ64GB002TISS; Mounting Technology: Surface Mount; Code_JEDEC: MS-150; ComponentLink1Description: Manufacturer URL; ComponentLink1URL: http://www.microchip.com/; ComponentLink2Description: Datasheet; ComponentLink2URL: http://ww1.microchip.com/downloads/en/DeviceDoc/39940d.pdf; ComponentLink3Description: Package Specification; ComponentLink3URL: http://www.microchip.com/stellent/groups/techpub_sg/documents/packagingspec/en012702.pdf
footprint SSOP-SS28_N (SOP, 28-Leads, Body 10.2x5.2mm, Pitch 0.65mm, IPC Medium Density)
footprint SSOP-SS28_L (SOP, 28-Leads, Body 10.2x5.2mm, Pitch 0.65mm, IPC High Density)
footprint SSOP-SS28_M (SOP, 28-Leads, Body 10.2x5.2mm, Pitch 0.65mm, IPC Low Density)
pins: 1 ~{MCLR} (in), 2 PGED3/AN0/C3INC/VREF+/ASDA1/RP5/PMD7/CTED1/VBUSVLD/VCMPST1/CN2/RA0 (io), 3 PGEC3/AN1/C3IND/VREF-/ASCL1/RP6/PMD6/CTED2/SESSVLD/VCMPST2/CN3/RA1 (io), 4 PGED1/AN2/C2INB/DPH/RP0/PMD0/CN4/RB0 (io), 5 PGEC1/AN3/C2INA/DMH/RP1/PMD1/CN5/RB1 (io), 6 AN4/C1INB/DPLN/SDA2/RP2/PMD2/CN6/RB2 (io), 7 AN5/C1INA/DMLN/RTCC/SCL2/RP3/PMWR/CN7/RB3 (io), 8 VSS (power), 9 OSCI/CLKI/C1IND/PMCS1/CN30/RA2 (io), 10 OSCO/CLKO/PMA0/CN29/RA3 (io), 11 SOSCI/C2IND/RP4/PMBE/CN1/RB4 (io), 12 SOSCO/SCLKI/T1CK/C2INC/PMA1/CN0/RA4 (io), 13 VDD (power), 14 TMS/USBID/CN27/RB5 (io), 15 VBUS (power), 16 TDI/RP7/PMD5/INT0/CN23/RB7 (io), 17 TCK/USBOEN/SCL1/RP8/PMD4/CN22/RB8 (io), 18 TDO/SDA1/RP9/PMD3/RCV/CN21/RB9 (io), 19 DISVREG (in), 20 VCAP/VDDCORE (power), 21 PGED2/D+/VPIO/RP10/CN16/RB10 (io), 22 PGEC2/D-/VMIO/RP11/CN15/RB11 (io), 23 VUSB (power), 24 AN11/C1INC/RP13/PMRD/REFO/SESSEND/CN13/RB13 (io), 25 AN10/C3INB/CVREF/VCPCON/VBUSON/RP14/CN12/RB14 (io), 26 AN9/C3INA/VBUSCHG/RP15/VBUSST/CN11/RB15 (io), 27 VSS (power), 28 VDD (power)

## PIC24FJ64GB004-I/ML
designator U?
16-Bit Flash Microcontroller with USB On-The-Go and nanoWatt XLP, 64KB Flash, 8KB SRAM, 44-Pin QFN, Industrial Temperature; Manufacturer: Microchip; PartNumber: PIC24FJ64GB004-I/ML; DatasheetVersion: revD, Aug-2010; PackageVersion: revBB, Aug-2009; PackageReference: QFN-ML44; PackageDescription: 44-Lead Plastic Quad Flat, No Lead Package (ML) - 8x8 mm Body [QFN]; Supplier 1: Digi-Key; Supplier Part Number 1: PIC24FJ64GB004-I/ML-ND; Supplier 2: Farnell; Supplier Part Number 2: 1778486; Supplier 3: Newark; Supplier Part Number 3: 45P4826; Supplier 4: Mouser; Supplier Part Number 4: 579-PIC24FJ64GB-I/ML; Mounting Technology: Surface Mount; Code_JEDEC: MO-220; Code_IPC: QFN65P800X800-44V2; ComponentLink1Description: Manufacturer URL; ComponentLink1URL: http://www.microchip.com/; ComponentLink2Description: Datasheet; ComponentLink2URL: http://ww1.microchip.com/downloads/en/DeviceDoc/39940d.pdf; ComponentLink3Description: Package Specification; ComponentLink3URL: http://www.microchip.com/stellent/groups/techpub_sg/documents/packagingspec/en012702.pdf
footprint QFN-ML44_N (QFN, 44-Leads, Body 8x8mm, Pitch 0.65mm, Thermal Pad 6.8x6.8mm, IPC Medium Density)
footprint QFN-ML44_L (QFN, 44-Leads, Body 8x8mm, Pitch 0.65mm, Thermal Pad 6.8x6.8mm, IPC High Density)
footprint QFN-ML44_M (QFN, 44-Leads, Body 8x8mm, Pitch 0.65mm, Thermal Pad 6.8x6.8mm, IPC Low Density)
pins: 1 SDA1/RP9/PMD3/RCV/CN21/RB9 (io), 2 RP22/PMA1/CN18/RC6 (io), 3 RP23/PMA0/CN17/RC7 (io), 4 RP24/PMA5/CN20/RC8 (io), 5 RP25/PMA6/CN19/RC9 (io), 6 DISVREG (in), 7 VCAP/VDDCORE (power), 8 PGED2/D+/VPIO/RP10/CN16/RB10 (io), 9 PGEC2/D-/VMIO/RP11/CN15/RB11 (io), 10 VUSB (power), 11 AN11/C1INC/RP13/REFO/PMRD/SESSEND/CN13/RB13 (io), 12 TMS/PMA10/RA10 (io), 13 TCK/PMA7/RA7 (io), 14 AN10/C3INB/CVREF/VCPCON/VBUSON/RP14/CN12/RB14 (io), 15 AN9/C3INA/VBUSCHG/RP15/VBUSST/CN11/RB15 (io), 16 AVSS (power), 17 AVDD (power), 18 ~{MCLR} (in), 19 PGED3/AN0/C3INC/VREF+/ASDA1/RP5/PMD7/CTED1/VBUSVLD/VCMPST1/CN2/RA0 (io), 20 PGEC3/AN1/C3IND/VREF-/ASCL1/RP6/PMD6/CTED2/SESSVLD/VCMPST2/CN3/RA1 (io), 21 PGED1/AN2/C2INB/DPH/RP0/PMD0/CN4/RB0 (io), 22 PGEC1/AN3/C2INA/DMH/RP1/PMD1/CN5/RB1 (io), 23 AN4/C1INB/DPLN/SDA2/RP2/PMD2/CN6/RB2 (io), 24 AN5/C1INA/DMLN/RTCC/SCL2/RP3/PMWR/CN7/RB3 (io), 25 AN6/RP16/CN8/RC0 (io), 26 AN7/RP17/CN9/RC1 (io), 27 AN8/RP18/PMA2/CN10/RC2 (io), 28 VDD (power), 29 VSS (power), 30 OSCI/CLKI/C1IND/PMCS1/CN30/RA2 (io), 31 OSCO/CLKO/CN29/RA3 (io), 32 TDO/PMA8/RA8 (io), 33 SOSCI/C2IND/RP4/CN1/RB4 (io), 34 SOSCO/SCLKI/T1CK/C2INC/CN0/RA4 (io), 35 TDI/PMA9/RA9 (io), 36 AN12/RP19/PMBE/CN28/RC3 (io), 37 RP20/PMA4/CN25/RC4 (io), 38 RP21/PMA3/CN26/RC5 (io), 39 VSS (power), 40 VDD (power), 41 CN27/USBID/RB5 (io), 42 VBUS (power), 43 RP7/PMD5/INT0/CN23/RB7 (io), 44 USBOEN/SCL1/RP8/PMD4/CN22/RB8 (io), 45 VSS (power)

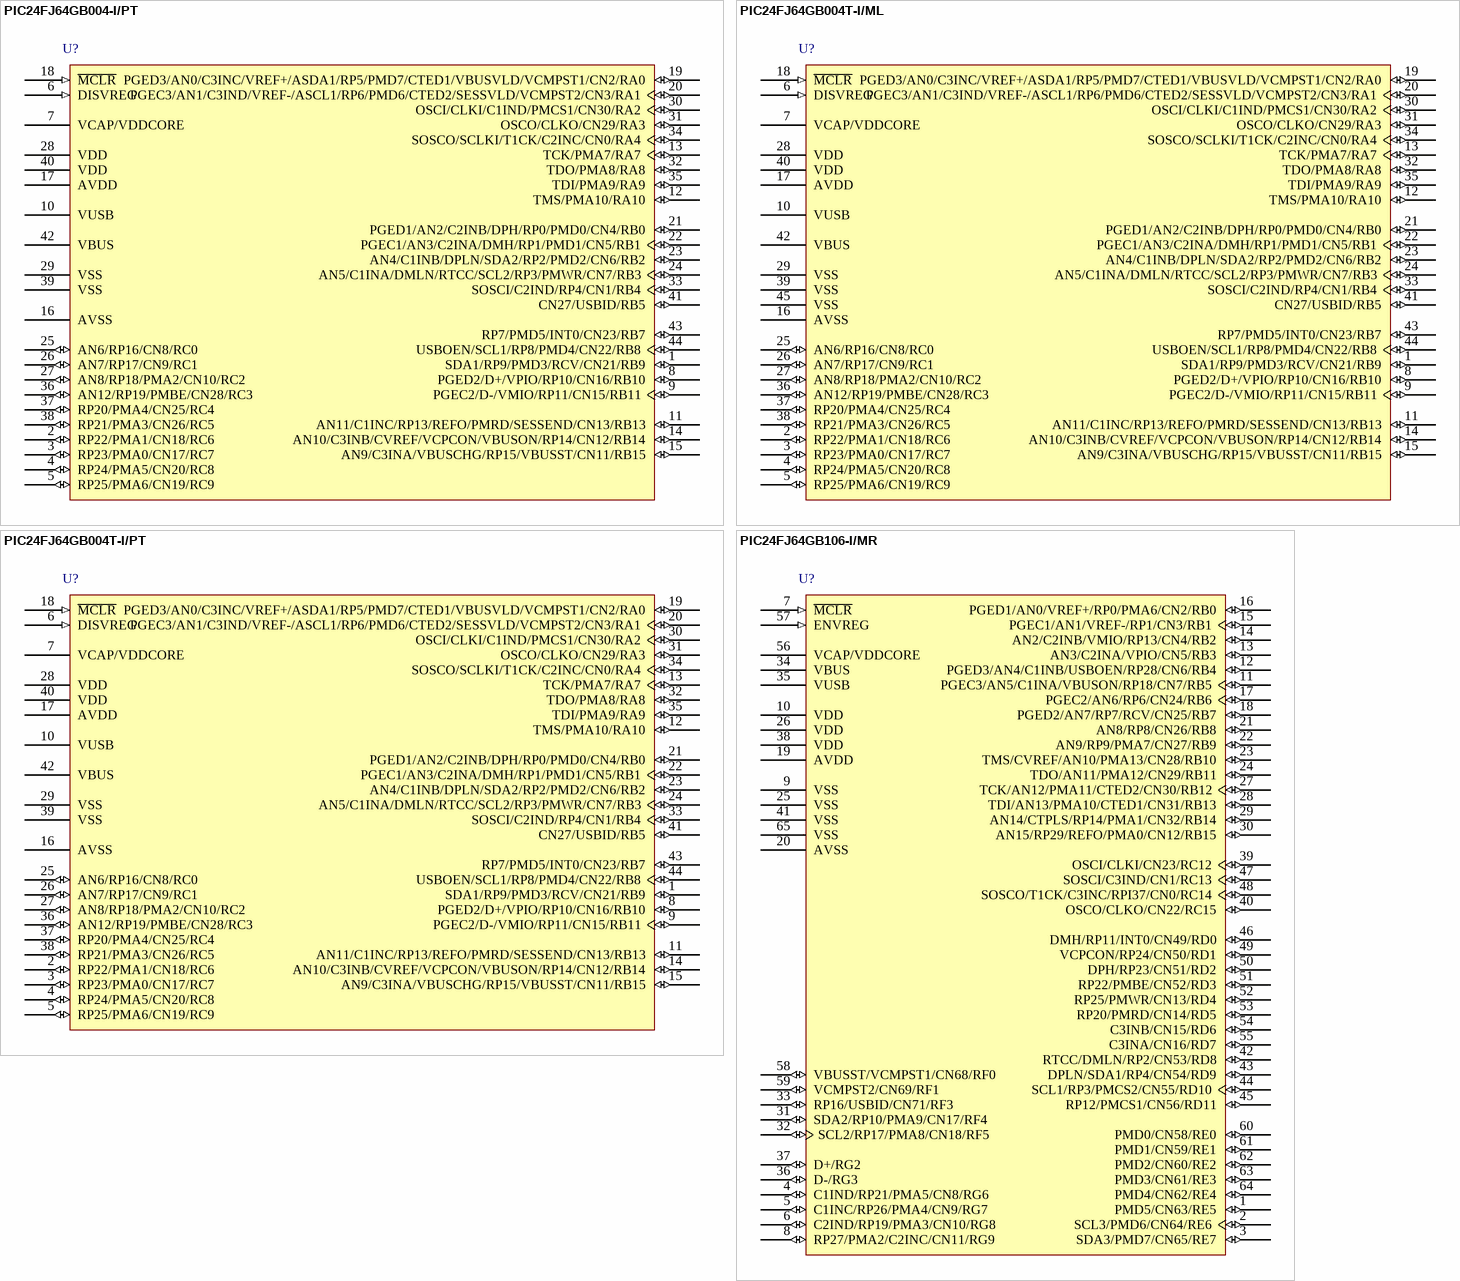
[diagram p51: symbols PIC24FJ64GB004-I/PT to PIC24FJ64GB106-I/MR]

## PIC24FJ64GB004-I/PT
designator U?
16-Bit Flash Microcontroller with USB On-The-Go and nanoWatt XLP, 64KB Flash, 8KB SRAM, 44-Pin TQFP, Industrial Temperature; Manufacturer: Microchip; PartNumber: PIC24FJ64GB004-I/PT; DatasheetVersion: revD, Aug-2010; PackageVersion: revBB, Aug-2009; PackageReference: TQFP-PT44; PackageDescription: 44-Lead Plastic Thin Quad Flatpack (PT) - 10x10x1mm Body, 2.00mm [TQFP]; Supplier 1: Digi-Key; Supplier Part Number 1: PIC24FJ64GB004-I/PT-ND; Supplier 2: Farnell; Supplier Part Number 2: 1778487MPKG; Supplier 3: Farnell; Supplier Part Number 3: 1778487; Supplier 4: Newark; Supplier Part Number 4: 45P4827; Supplier 5: Mouser; Supplier Part Number 5: 579-FJ64GB004-I/PT; Mounting Technology: Surface Mount; Code_JEDEC: MS-026; ComponentLink1Description: Manufacturer URL; ComponentLink1URL: http://www.microchip.com/; ComponentLink2Description: Datasheet; ComponentLink2URL: http://ww1.microchip.com/downloads/en/DeviceDoc/39940d.pdf; ComponentLink3Description: Package Specification; ComponentLink3URL: http://www.microchip.com/stellent/groups/techpub_sg/documents/packagingspec/en012702.pdf
footprint TQFP-PT44_N (Thin QFP, 44-Leads, Body 10x10mm, Pitch 0.8mm, IPC Medium Density)
footprint TQFP-PT44_L (Thin QFP, 44-Leads, Body 10x10mm, Pitch 0.8mm, IPC High Density)
footprint TQFP-PT44_M (Thin QFP, 44-Leads, Body 10x10mm, Pitch 0.8mm, IPC Low Density)
pins: 1 SDA1/RP9/PMD3/RCV/CN21/RB9 (io), 2 RP22/PMA1/CN18/RC6 (io), 3 RP23/PMA0/CN17/RC7 (io), 4 RP24/PMA5/CN20/RC8 (io), 5 RP25/PMA6/CN19/RC9 (io), 6 DISVREG (in), 7 VCAP/VDDCORE (power), 8 PGED2/D+/VPIO/RP10/CN16/RB10 (io), 9 PGEC2/D-/VMIO/RP11/CN15/RB11 (io), 10 VUSB (power), 11 AN11/C1INC/RP13/REFO/PMRD/SESSEND/CN13/RB13 (io), 12 TMS/PMA10/RA10 (io), 13 TCK/PMA7/RA7 (io), 14 AN10/C3INB/CVREF/VCPCON/VBUSON/RP14/CN12/RB14 (io), 15 AN9/C3INA/VBUSCHG/RP15/VBUSST/CN11/RB15 (io), 16 AVSS (power), 17 AVDD (power), 18 ~{MCLR} (in), 19 PGED3/AN0/C3INC/VREF+/ASDA1/RP5/PMD7/CTED1/VBUSVLD/VCMPST1/CN2/RA0 (io), 20 PGEC3/AN1/C3IND/VREF-/ASCL1/RP6/PMD6/CTED2/SESSVLD/VCMPST2/CN3/RA1 (io), 21 PGED1/AN2/C2INB/DPH/RP0/PMD0/CN4/RB0 (io), 22 PGEC1/AN3/C2INA/DMH/RP1/PMD1/CN5/RB1 (io), 23 AN4/C1INB/DPLN/SDA2/RP2/PMD2/CN6/RB2 (io), 24 AN5/C1INA/DMLN/RTCC/SCL2/RP3/PMWR/CN7/RB3 (io), 25 AN6/RP16/CN8/RC0 (io), 26 AN7/RP17/CN9/RC1 (io), 27 AN8/RP18/PMA2/CN10/RC2 (io), 28 VDD (power), 29 VSS (power), 30 OSCI/CLKI/C1IND/PMCS1/CN30/RA2 (io), 31 OSCO/CLKO/CN29/RA3 (io), 32 TDO/PMA8/RA8 (io), 33 SOSCI/C2IND/RP4/CN1/RB4 (io), 34 SOSCO/SCLKI/T1CK/C2INC/CN0/RA4 (io), 35 TDI/PMA9/RA9 (io), 36 AN12/RP19/PMBE/CN28/RC3 (io), 37 RP20/PMA4/CN25/RC4 (io), 38 RP21/PMA3/CN26/RC5 (io), 39 VSS (power), 40 VDD (power), 41 CN27/USBID/RB5 (io), 42 VBUS (power), 43 RP7/PMD5/INT0/CN23/RB7 (io), 44 USBOEN/SCL1/RP8/PMD4/CN22/RB8 (io)

## PIC24FJ64GB004T-I/ML
designator U?
16-Bit Flash Microcontroller with USB On-The-Go and nanoWatt XLP, 64KB Flash, 8KB SRAM, 44-Pin QFN, Industrial Temperature, Tape and Reel; Manufacturer: Microchip; PartNumber: PIC24FJ64GB004T-I/ML; DatasheetVersion: revD, Aug-2010; PackageVersion: revBB, Aug-2009; PackageReference: QFN-ML44; PackageDescription: 44-Lead Plastic Quad Flat, No Lead Package (ML) - 8x8 mm Body [QFN]; Supplier 1: Digi-Key; Supplier Part Number 1: PIC24FJ64GB004T-I/ML-ND; Supplier 2: Mouser; Supplier Part Number 2: 579-FJ64GB004T-I/ML; Mounting Technology: Surface Mount; Code_JEDEC: MO-220; Code_IPC: QFN65P800X800-44V2; ComponentLink1Description: Manufacturer URL; ComponentLink1URL: http://www.microchip.com/; ComponentLink2Description: Datasheet; ComponentLink2URL: http://ww1.microchip.com/downloads/en/DeviceDoc/39940d.pdf; ComponentLink3Description: Package Specification; ComponentLink3URL: http://www.microchip.com/stellent/groups/techpub_sg/documents/packagingspec/en012702.pdf
footprint QFN-ML44_N (QFN, 44-Leads, Body 8x8mm, Pitch 0.65mm, Thermal Pad 6.8x6.8mm, IPC Medium Density)
footprint QFN-ML44_L (QFN, 44-Leads, Body 8x8mm, Pitch 0.65mm, Thermal Pad 6.8x6.8mm, IPC High Density)
footprint QFN-ML44_M (QFN, 44-Leads, Body 8x8mm, Pitch 0.65mm, Thermal Pad 6.8x6.8mm, IPC Low Density)
pins: 1 SDA1/RP9/PMD3/RCV/CN21/RB9 (io), 2 RP22/PMA1/CN18/RC6 (io), 3 RP23/PMA0/CN17/RC7 (io), 4 RP24/PMA5/CN20/RC8 (io), 5 RP25/PMA6/CN19/RC9 (io), 6 DISVREG (in), 7 VCAP/VDDCORE (power), 8 PGED2/D+/VPIO/RP10/CN16/RB10 (io), 9 PGEC2/D-/VMIO/RP11/CN15/RB11 (io), 10 VUSB (power), 11 AN11/C1INC/RP13/REFO/PMRD/SESSEND/CN13/RB13 (io), 12 TMS/PMA10/RA10 (io), 13 TCK/PMA7/RA7 (io), 14 AN10/C3INB/CVREF/VCPCON/VBUSON/RP14/CN12/RB14 (io), 15 AN9/C3INA/VBUSCHG/RP15/VBUSST/CN11/RB15 (io), 16 AVSS (power), 17 AVDD (power), 18 ~{MCLR} (in), 19 PGED3/AN0/C3INC/VREF+/ASDA1/RP5/PMD7/CTED1/VBUSVLD/VCMPST1/CN2/RA0 (io), 20 PGEC3/AN1/C3IND/VREF-/ASCL1/RP6/PMD6/CTED2/SESSVLD/VCMPST2/CN3/RA1 (io), 21 PGED1/AN2/C2INB/DPH/RP0/PMD0/CN4/RB0 (io), 22 PGEC1/AN3/C2INA/DMH/RP1/PMD1/CN5/RB1 (io), 23 AN4/C1INB/DPLN/SDA2/RP2/PMD2/CN6/RB2 (io), 24 AN5/C1INA/DMLN/RTCC/SCL2/RP3/PMWR/CN7/RB3 (io), 25 AN6/RP16/CN8/RC0 (io), 26 AN7/RP17/CN9/RC1 (io), 27 AN8/RP18/PMA2/CN10/RC2 (io), 28 VDD (power), 29 VSS (power), 30 OSCI/CLKI/C1IND/PMCS1/CN30/RA2 (io), 31 OSCO/CLKO/CN29/RA3 (io), 32 TDO/PMA8/RA8 (io), 33 SOSCI/C2IND/RP4/CN1/RB4 (io), 34 SOSCO/SCLKI/T1CK/C2INC/CN0/RA4 (io), 35 TDI/PMA9/RA9 (io), 36 AN12/RP19/PMBE/CN28/RC3 (io), 37 RP20/PMA4/CN25/RC4 (io), 38 RP21/PMA3/CN26/RC5 (io), 39 VSS (power), 40 VDD (power), 41 CN27/USBID/RB5 (io), 42 VBUS (power), 43 RP7/PMD5/INT0/CN23/RB7 (io), 44 USBOEN/SCL1/RP8/PMD4/CN22/RB8 (io), 45 VSS (power)

## PIC24FJ64GB004T-I/PT
designator U?
16-Bit Flash Microcontroller with USB On-The-Go and nanoWatt XLP, 64KB Flash, 8KB SRAM, 44-Pin TQFP, Industrial Temperature, Tape and Reel; Manufacturer: Microchip; PartNumber: PIC24FJ64GB004T-I/PT; DatasheetVersion: revD, Aug-2010; PackageVersion: revBB, Aug-2009; PackageReference: TQFP-PT44; PackageDescription: 44-Lead Plastic Thin Quad Flatpack (PT) - 10x10x1mm Body, 2.00mm [TQFP]; Supplier 1: Digi-Key; Supplier Part Number 1: PIC24FJ64GB004T-I/PT-ND; Supplier 2: Newark; Supplier Part Number 2: 45P4829; Supplier 3: Mouser; Supplier Part Number 3: 579-FJ64GB004T-I/PT; Mounting Technology: Surface Mount; Code_JEDEC: MS-026; ComponentLink1Description: Manufacturer URL; ComponentLink1URL: http://www.microchip.com/; ComponentLink2Description: Datasheet; ComponentLink2URL: http://ww1.microchip.com/downloads/en/DeviceDoc/39940d.pdf; ComponentLink3Description: Package Specification; ComponentLink3URL: http://www.microchip.com/stellent/groups/techpub_sg/documents/packagingspec/en012702.pdf
footprint TQFP-PT44_N (Thin QFP, 44-Leads, Body 10x10mm, Pitch 0.8mm, IPC Medium Density)
footprint TQFP-PT44_L (Thin QFP, 44-Leads, Body 10x10mm, Pitch 0.8mm, IPC High Density)
footprint TQFP-PT44_M (Thin QFP, 44-Leads, Body 10x10mm, Pitch 0.8mm, IPC Low Density)
pins: 1 SDA1/RP9/PMD3/RCV/CN21/RB9 (io), 2 RP22/PMA1/CN18/RC6 (io), 3 RP23/PMA0/CN17/RC7 (io), 4 RP24/PMA5/CN20/RC8 (io), 5 RP25/PMA6/CN19/RC9 (io), 6 DISVREG (in), 7 VCAP/VDDCORE (power), 8 PGED2/D+/VPIO/RP10/CN16/RB10 (io), 9 PGEC2/D-/VMIO/RP11/CN15/RB11 (io), 10 VUSB (power), 11 AN11/C1INC/RP13/REFO/PMRD/SESSEND/CN13/RB13 (io), 12 TMS/PMA10/RA10 (io), 13 TCK/PMA7/RA7 (io), 14 AN10/C3INB/CVREF/VCPCON/VBUSON/RP14/CN12/RB14 (io), 15 AN9/C3INA/VBUSCHG/RP15/VBUSST/CN11/RB15 (io), 16 AVSS (power), 17 AVDD (power), 18 ~{MCLR} (in), 19 PGED3/AN0/C3INC/VREF+/ASDA1/RP5/PMD7/CTED1/VBUSVLD/VCMPST1/CN2/RA0 (io), 20 PGEC3/AN1/C3IND/VREF-/ASCL1/RP6/PMD6/CTED2/SESSVLD/VCMPST2/CN3/RA1 (io), 21 PGED1/AN2/C2INB/DPH/RP0/PMD0/CN4/RB0 (io), 22 PGEC1/AN3/C2INA/DMH/RP1/PMD1/CN5/RB1 (io), 23 AN4/C1INB/DPLN/SDA2/RP2/PMD2/CN6/RB2 (io), 24 AN5/C1INA/DMLN/RTCC/SCL2/RP3/PMWR/CN7/RB3 (io), 25 AN6/RP16/CN8/RC0 (io), 26 AN7/RP17/CN9/RC1 (io), 27 AN8/RP18/PMA2/CN10/RC2 (io), 28 VDD (power), 29 VSS (power), 30 OSCI/CLKI/C1IND/PMCS1/CN30/RA2 (io), 31 OSCO/CLKO/CN29/RA3 (io), 32 TDO/PMA8/RA8 (io), 33 SOSCI/C2IND/RP4/CN1/RB4 (io), 34 SOSCO/SCLKI/T1CK/C2INC/CN0/RA4 (io), 35 TDI/PMA9/RA9 (io), 36 AN12/RP19/PMBE/CN28/RC3 (io), 37 RP20/PMA4/CN25/RC4 (io), 38 RP21/PMA3/CN26/RC5 (io), 39 VSS (power), 40 VDD (power), 41 CN27/USBID/RB5 (io), 42 VBUS (power), 43 RP7/PMD5/INT0/CN23/RB7 (io), 44 USBOEN/SCL1/RP8/PMD4/CN22/RB8 (io)

## PIC24FJ64GB106-I/MR
designator U?
General Purpose 16-Bit Flash Microcontroller with USB On-The-Go, 64KB Flash, 16KB SRAM, 64-Pin QFN, Industrial Temperature; Manufacturer: Microchip; PartNumber: PIC24FJ64GB106-I/MR; DatasheetVersion: revC, Dec-2009; PackageVersion: revBB, Aug-2009; PackageReference: QFN-MR64; PackageDescription: 64-Lead Plastic Quad Flat, No Lead Package (MR) - 9x9x0.9 mm Body [QFN]; Supplier 1: Digi-Key; Supplier Part Number 1: PIC24FJ64GB106-I/MR-ND; Supplier 2: Farnell; Supplier Part Number 2: 1708593; Supplier 3: Newark; Supplier Part Number 3: 08R2002; Supplier 4: Mouser; Supplier Part Number 4: 579-24FJ64GB106-I/MR; Mounting Technology: Surface Mount; ComponentLink1Description: Manufacturer URL; ComponentLink1URL: http://www.microchip.com/; ComponentLink2Description: Datasheet; ComponentLink2URL: http://ww1.microchip.com/downloads/en/DeviceDoc/39897c.pdf; ComponentLink3Description: Package Specification; ComponentLink3URL: http://www.microchip.com/stellent/groups/techpub_sg/documents/packagingspec/en012702.pdf
footprint QFN-MR64_N (QFN, 64-Leads, Body 9x9mm, Pitch 0.5mm, Thermal Pad 7.5x7.5mm, IPC Medium Density)
footprint QFN-MR64_L (QFN, 64-Leads, Body 9x9mm, Pitch 0.5mm, Thermal Pad 7.5x7.5mm, IPC High Density)
footprint QFN-MR64_M (QFN, 64-Leads, Body 9x9mm, Pitch 0.5mm, Thermal Pad 7.5x7.5mm, IPC Low Density)
pins: 1 PMD5/CN63/RE5 (io), 2 SCL3/PMD6/CN64/RE6 (io), 3 SDA3/PMD7/CN65/RE7 (io), 4 C1IND/RP21/PMA5/CN8/RG6 (io), 5 C1INC/RP26/PMA4/CN9/RG7 (io), 6 C2IND/RP19/PMA3/CN10/RG8 (io), 7 ~{MCLR} (in), 8 RP27/PMA2/C2INC/CN11/RG9 (io), 9 VSS (power), 10 VDD (power), 11 PGEC3/AN5/C1INA/VBUSON/RP18/CN7/RB5 (io), 12 PGED3/AN4/C1INB/USBOEN/RP28/CN6/RB4 (io), 13 AN3/C2INA/VPIO/CN5/RB3 (io), 14 AN2/C2INB/VMIO/RP13/CN4/RB2 (io), 15 PGEC1/AN1/VREF-/RP1/CN3/RB1 (io), 16 PGED1/AN0/VREF+/RP0/PMA6/CN2/RB0 (io), 17 PGEC2/AN6/RP6/CN24/RB6 (io), 18 PGED2/AN7/RP7/RCV/CN25/RB7 (io), 19 AVDD (power), 20 AVSS (power), 21 AN8/RP8/CN26/RB8 (io), 22 AN9/RP9/PMA7/CN27/RB9 (io), 23 TMS/CVREF/AN10/PMA13/CN28/RB10 (io), 24 TDO/AN11/PMA12/CN29/RB11 (io), 25 VSS (power), 26 VDD (power), 27 TCK/AN12/PMA11/CTED2/CN30/RB12 (io), 28 TDI/AN13/PMA10/CTED1/CN31/RB13 (io), 29 AN14/CTPLS/RP14/PMA1/CN32/RB14 (io), 30 AN15/RP29/REFO/PMA0/CN12/RB15 (io), 31 SDA2/RP10/PMA9/CN17/RF4 (io), 32 SCL2/RP17/PMA8/CN18/RF5 (io), 33 RP16/USBID/CN71/RF3 (io), 34 VBUS (power), 35 VUSB (power), 36 D-/RG3 (io), 37 D+/RG2 (io), 38 VDD (power), 39 OSCI/CLKI/CN23/RC12 (io), 40 OSCO/CLKO/CN22/RC15 (io), 41 VSS (power), 42 RTCC/DMLN/RP2/CN53/RD8 (io), 43 DPLN/SDA1/RP4/CN54/RD9 (io), 44 SCL1/RP3/PMCS2/CN55/RD10 (io), 45 RP12/PMCS1/CN56/RD11 (io), 46 DMH/RP11/INT0/CN49/RD0 (io), 47 SOSCI/C3IND/CN1/RC13 (io), 48 SOSCO/T1CK/C3INC/RPI37/CN0/RC14 (io), 49 VCPCON/RP24/CN50/RD1 (io), 50 DPH/RP23/CN51/RD2 (io), 51 RP22/PMBE/CN52/RD3 (io), 52 RP25/PMWR/CN13/RD4 (io), 53 RP20/PMRD/CN14/RD5 (io), 54 C3INB/CN15/RD6 (io), 55 C3INA/CN16/RD7 (io), 56 VCAP/VDDCORE (power), 57 ENVREG (in), 58 VBUSST/VCMPST1/CN68/RF0 (io), 59 VCMPST2/CN69/RF1 (io), 60 PMD0/CN58/RE0 (io), 61 PMD1/CN59/RE1 (io), 62 PMD2/CN60/RE2 (io), 63 PMD3/CN61/RE3 (io), 64 PMD4/CN62/RE4 (io), 65 VSS

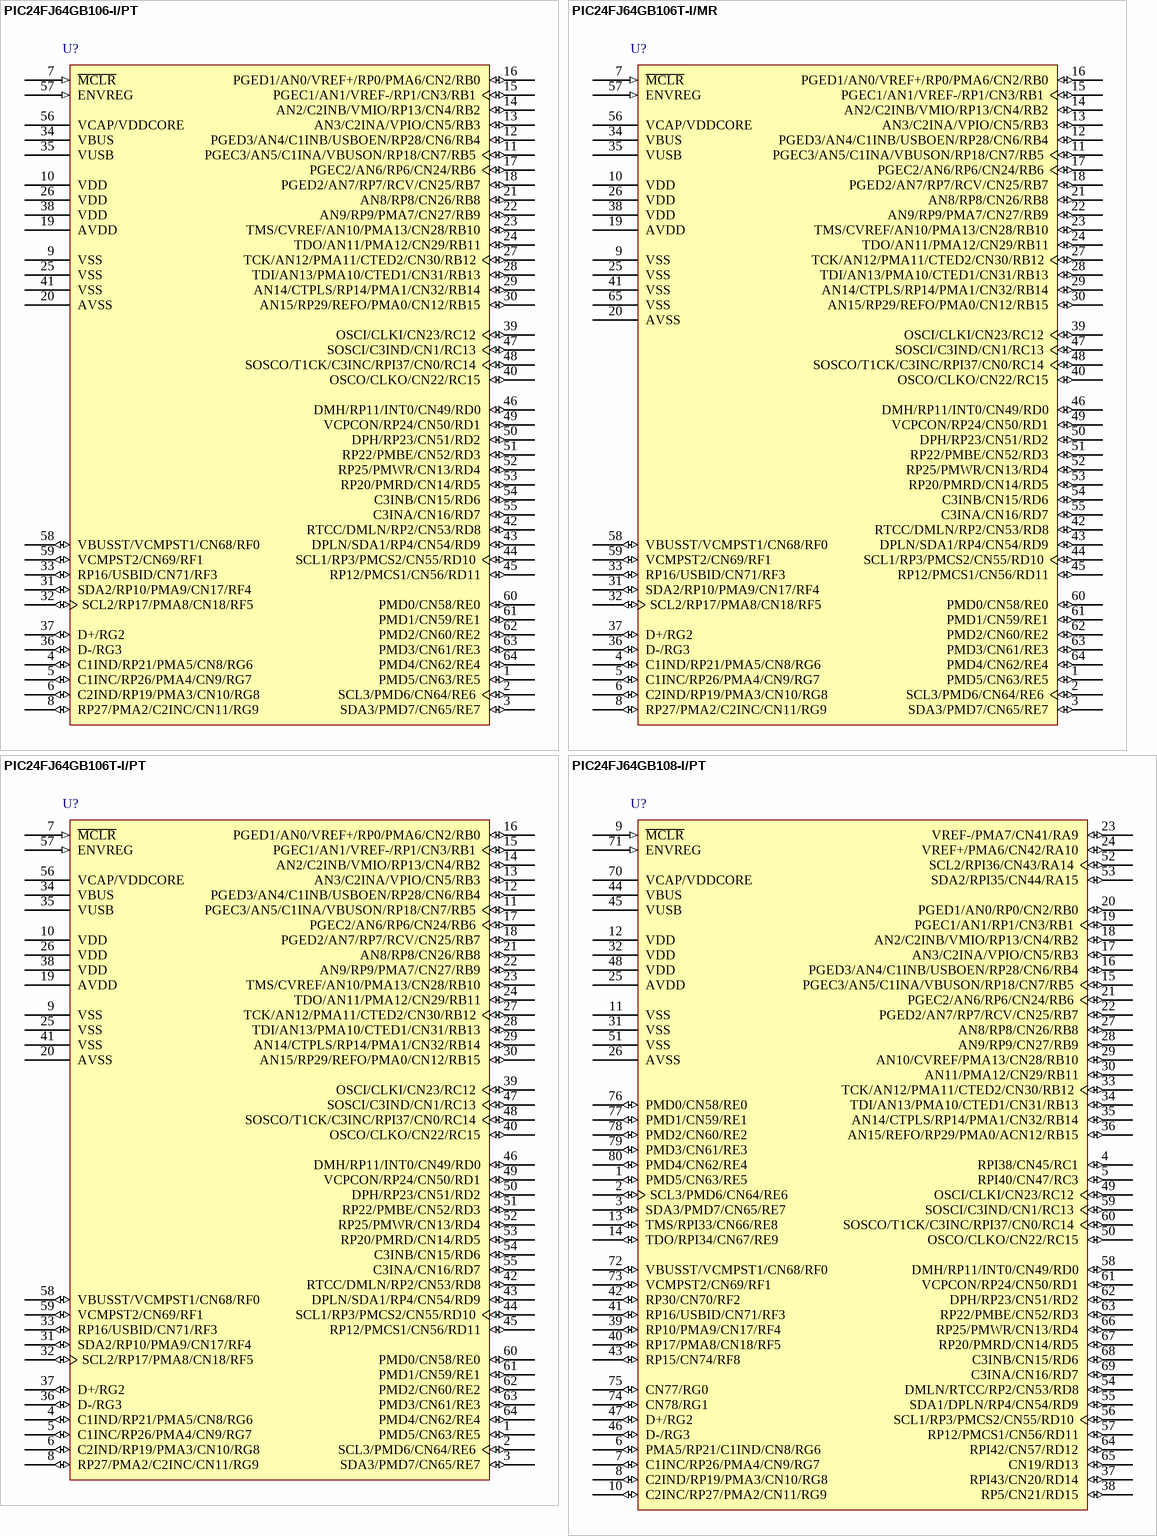
[diagram p52: symbols PIC24FJ64GB106-I/PT to PIC24FJ64GB108-I/PT]

## PIC24FJ64GB106-I/PT
designator U?
General Purpose 16-Bit Flash Microcontroller with USB On-The-Go, 64KB Flash, 16KB SRAM, 64-Pin TQFP, Industrial Temperature; Manufacturer: Microchip; PartNumber: PIC24FJ64GB106-I/PT; DatasheetVersion: revC, Dec-2009; PackageVersion: revBB, Aug-2009; PackageReference: TQFP-PT64; PackageDescription: 64-Lead Thin Plastic Quad Flat Pack (PT) - 10x10x1mm Body, 2.00mm [TQFP]; Supplier 1: Digi-Key; Supplier Part Number 1: PIC24FJ64GB106-I/PT-ND; Supplier 2: Farnell; Supplier Part Number 2: 1576873MPKG; Supplier 3: Farnell; Supplier Part Number 3: 1576873; Supplier 4: Newark; Supplier Part Number 4: 54M5137; Supplier 5: Mouser; Supplier Part Number 5: 579-PIC24F64GB106IPT; Mounting Technology: Surface Mount; Code_JEDEC: MS-026; ComponentLink1Description: Manufacturer URL; ComponentLink1URL: http://www.microchip.com/; ComponentLink2Description: Datasheet; ComponentLink2URL: http://ww1.microchip.com/downloads/en/DeviceDoc/39897c.pdf; ComponentLink3Description: Package Specification; ComponentLink3URL: http://www.microchip.com/stellent/groups/techpub_sg/documents/packagingspec/en012702.pdf
footprint TQFP-PT64_N (Thin QFP, 64-Leads, Body 10x10mm, Pitch 0.5mm, IPC Medium Density)
footprint TQFP-PT64_L (Thin QFP, 64-Leads, Body 10x10mm, Pitch 0.5mm, IPC High Density)
footprint TQFP-PT64_M (Thin QFP, 64-Leads, Body 10x10mm, Pitch 0.5mm, IPC Low Density)
pins: 1 PMD5/CN63/RE5 (io), 2 SCL3/PMD6/CN64/RE6 (io), 3 SDA3/PMD7/CN65/RE7 (io), 4 C1IND/RP21/PMA5/CN8/RG6 (io), 5 C1INC/RP26/PMA4/CN9/RG7 (io), 6 C2IND/RP19/PMA3/CN10/RG8 (io), 7 ~{MCLR} (in), 8 RP27/PMA2/C2INC/CN11/RG9 (io), 9 VSS (power), 10 VDD (power), 11 PGEC3/AN5/C1INA/VBUSON/RP18/CN7/RB5 (io), 12 PGED3/AN4/C1INB/USBOEN/RP28/CN6/RB4 (io), 13 AN3/C2INA/VPIO/CN5/RB3 (io), 14 AN2/C2INB/VMIO/RP13/CN4/RB2 (io), 15 PGEC1/AN1/VREF-/RP1/CN3/RB1 (io), 16 PGED1/AN0/VREF+/RP0/PMA6/CN2/RB0 (io), 17 PGEC2/AN6/RP6/CN24/RB6 (io), 18 PGED2/AN7/RP7/RCV/CN25/RB7 (io), 19 AVDD (power), 20 AVSS (power), 21 AN8/RP8/CN26/RB8 (io), 22 AN9/RP9/PMA7/CN27/RB9 (io), 23 TMS/CVREF/AN10/PMA13/CN28/RB10 (io), 24 TDO/AN11/PMA12/CN29/RB11 (io), 25 VSS (power), 26 VDD (power), 27 TCK/AN12/PMA11/CTED2/CN30/RB12 (io), 28 TDI/AN13/PMA10/CTED1/CN31/RB13 (io), 29 AN14/CTPLS/RP14/PMA1/CN32/RB14 (io), 30 AN15/RP29/REFO/PMA0/CN12/RB15 (io), 31 SDA2/RP10/PMA9/CN17/RF4 (io), 32 SCL2/RP17/PMA8/CN18/RF5 (io), 33 RP16/USBID/CN71/RF3 (io), 34 VBUS (power), 35 VUSB (power), 36 D-/RG3 (io), 37 D+/RG2 (io), 38 VDD (power), 39 OSCI/CLKI/CN23/RC12 (io), 40 OSCO/CLKO/CN22/RC15 (io), 41 VSS (power), 42 RTCC/DMLN/RP2/CN53/RD8 (io), 43 DPLN/SDA1/RP4/CN54/RD9 (io), 44 SCL1/RP3/PMCS2/CN55/RD10 (io), 45 RP12/PMCS1/CN56/RD11 (io), 46 DMH/RP11/INT0/CN49/RD0 (io), 47 SOSCI/C3IND/CN1/RC13 (io), 48 SOSCO/T1CK/C3INC/RPI37/CN0/RC14 (io), 49 VCPCON/RP24/CN50/RD1 (io), 50 DPH/RP23/CN51/RD2 (io), 51 RP22/PMBE/CN52/RD3 (io), 52 RP25/PMWR/CN13/RD4 (io), 53 RP20/PMRD/CN14/RD5 (io), 54 C3INB/CN15/RD6 (io), 55 C3INA/CN16/RD7 (io), 56 VCAP/VDDCORE (power), 57 ENVREG (in), 58 VBUSST/VCMPST1/CN68/RF0 (io), 59 VCMPST2/CN69/RF1 (io), 60 PMD0/CN58/RE0 (io), 61 PMD1/CN59/RE1 (io), 62 PMD2/CN60/RE2 (io), 63 PMD3/CN61/RE3 (io), 64 PMD4/CN62/RE4 (io)

## PIC24FJ64GB106T-I/MR
designator U?
General Purpose 16-Bit Flash Microcontroller with USB On-The-Go, 64KB Flash, 16KB SRAM, 64-Pin QFN, Industrial Temperature, Tape and Reel; Manufacturer: Microchip; PartNumber: PIC24FJ64GB106T-I/MR; DatasheetVersion: revC, Dec-2009; PackageVersion: revBB, Aug-2009; PackageReference: QFN-MR64; PackageDescription: 64-Lead Plastic Quad Flat, No Lead Package (MR) - 9x9x0.9 mm Body [QFN]; Mounting Technology: Surface Mount; ComponentLink1Description: Manufacturer URL; ComponentLink1URL: http://www.microchip.com/; ComponentLink2Description: Datasheet; ComponentLink2URL: http://ww1.microchip.com/downloads/en/DeviceDoc/39897c.pdf; ComponentLink3Description: Package Specification; ComponentLink3URL: http://www.microchip.com/stellent/groups/techpub_sg/documents/packagingspec/en012702.pdf
footprint QFN-MR64_N (QFN, 64-Leads, Body 9x9mm, Pitch 0.5mm, Thermal Pad 7.5x7.5mm, IPC Medium Density)
footprint QFN-MR64_L (QFN, 64-Leads, Body 9x9mm, Pitch 0.5mm, Thermal Pad 7.5x7.5mm, IPC High Density)
footprint QFN-MR64_M (QFN, 64-Leads, Body 9x9mm, Pitch 0.5mm, Thermal Pad 7.5x7.5mm, IPC Low Density)
pins: 1 PMD5/CN63/RE5 (io), 2 SCL3/PMD6/CN64/RE6 (io), 3 SDA3/PMD7/CN65/RE7 (io), 4 C1IND/RP21/PMA5/CN8/RG6 (io), 5 C1INC/RP26/PMA4/CN9/RG7 (io), 6 C2IND/RP19/PMA3/CN10/RG8 (io), 7 ~{MCLR} (in), 8 RP27/PMA2/C2INC/CN11/RG9 (io), 9 VSS (power), 10 VDD (power), 11 PGEC3/AN5/C1INA/VBUSON/RP18/CN7/RB5 (io), 12 PGED3/AN4/C1INB/USBOEN/RP28/CN6/RB4 (io), 13 AN3/C2INA/VPIO/CN5/RB3 (io), 14 AN2/C2INB/VMIO/RP13/CN4/RB2 (io), 15 PGEC1/AN1/VREF-/RP1/CN3/RB1 (io), 16 PGED1/AN0/VREF+/RP0/PMA6/CN2/RB0 (io), 17 PGEC2/AN6/RP6/CN24/RB6 (io), 18 PGED2/AN7/RP7/RCV/CN25/RB7 (io), 19 AVDD (power), 20 AVSS (power), 21 AN8/RP8/CN26/RB8 (io), 22 AN9/RP9/PMA7/CN27/RB9 (io), 23 TMS/CVREF/AN10/PMA13/CN28/RB10 (io), 24 TDO/AN11/PMA12/CN29/RB11 (io), 25 VSS (power), 26 VDD (power), 27 TCK/AN12/PMA11/CTED2/CN30/RB12 (io), 28 TDI/AN13/PMA10/CTED1/CN31/RB13 (io), 29 AN14/CTPLS/RP14/PMA1/CN32/RB14 (io), 30 AN15/RP29/REFO/PMA0/CN12/RB15 (io), 31 SDA2/RP10/PMA9/CN17/RF4 (io), 32 SCL2/RP17/PMA8/CN18/RF5 (io), 33 RP16/USBID/CN71/RF3 (io), 34 VBUS (power), 35 VUSB (power), 36 D-/RG3 (io), 37 D+/RG2 (io), 38 VDD (power), 39 OSCI/CLKI/CN23/RC12 (io), 40 OSCO/CLKO/CN22/RC15 (io), 41 VSS (power), 42 RTCC/DMLN/RP2/CN53/RD8 (io), 43 DPLN/SDA1/RP4/CN54/RD9 (io), 44 SCL1/RP3/PMCS2/CN55/RD10 (io), 45 RP12/PMCS1/CN56/RD11 (io), 46 DMH/RP11/INT0/CN49/RD0 (io), 47 SOSCI/C3IND/CN1/RC13 (io), 48 SOSCO/T1CK/C3INC/RPI37/CN0/RC14 (io), 49 VCPCON/RP24/CN50/RD1 (io), 50 DPH/RP23/CN51/RD2 (io), 51 RP22/PMBE/CN52/RD3 (io), 52 RP25/PMWR/CN13/RD4 (io), 53 RP20/PMRD/CN14/RD5 (io), 54 C3INB/CN15/RD6 (io), 55 C3INA/CN16/RD7 (io), 56 VCAP/VDDCORE (power), 57 ENVREG (in), 58 VBUSST/VCMPST1/CN68/RF0 (io), 59 VCMPST2/CN69/RF1 (io), 60 PMD0/CN58/RE0 (io), 61 PMD1/CN59/RE1 (io), 62 PMD2/CN60/RE2 (io), 63 PMD3/CN61/RE3 (io), 64 PMD4/CN62/RE4 (io), 65 VSS